# Altium footprint library PcbLib1.PcbLib: 12 footprints
Each footprint in its own frame and in the unit in brackets; x right, y up, seen from the top. Pads: shape width x height; smd on the part's side, far side on the other; paste and mask are expansions set on the pad; w line width, h text height; cw(c..) or ccw(c..) is an arc to the next point about the centre after c.
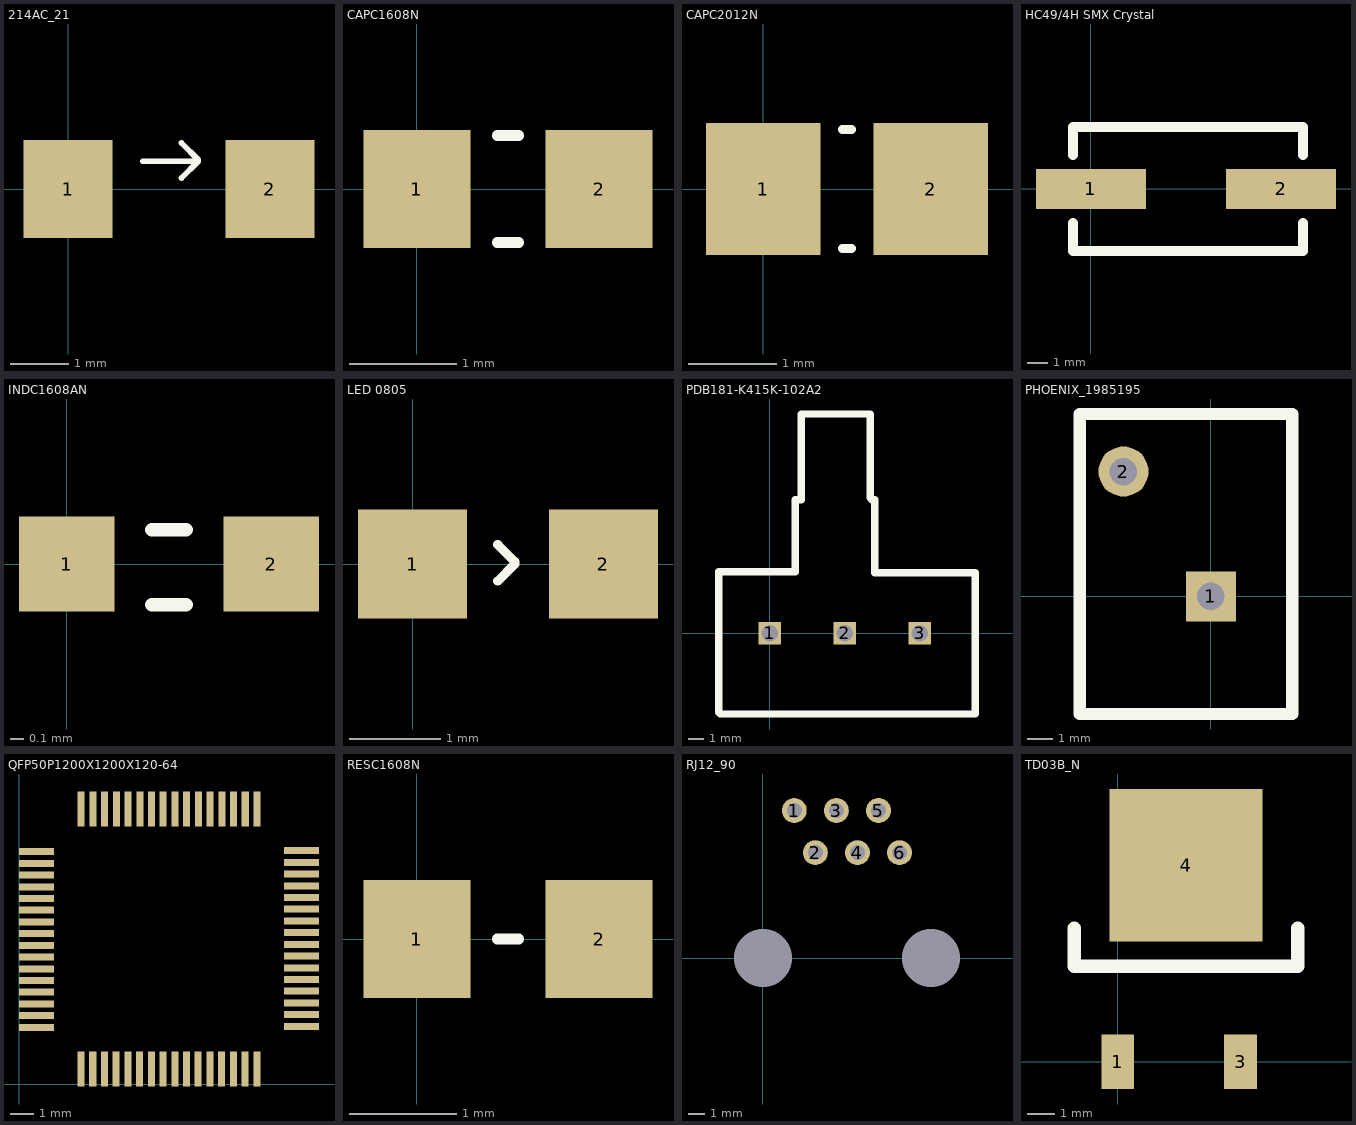
[diagram p0: the footprints below, top view; thin cyan lines are the x and y axes]

## 214AC_21 [mm]
height 3
pads (2):
  rect 1.52x1.68 smd: 1(0,0) 2(3.45,0)
Top Overlay:
  lines w0.1: 1.275,0.475 2.225,0.475 1.938,0.187 ; 1.938,0.787 2.225,0.5

## CAPC1608N [mm]
height 0.85
pads (2):
  rect 1x1.1 smd: 1(0,0) 2(1.7,0)
Top Overlay:
  lines w0.1: 0.75,-0.5 0.95,-0.5 ; 0.75,0.5 0.95,0.5

## CAPC2012N [mm]
height 1.1
pads (2):
  rect 1.3x1.5 smd: 1(0,0) 2(1.9,0)
Top Overlay:
  lines w0.1: 0.9,-0.675 1,-0.675 ; 0.9,0.675 1,0.675

## HC49/4H SMX Crystal [mm]
pads (2):
  rect 5.5x2 smd: 1(0,0) 2(9.5,0)
Top Overlay:
  lines w0.5: -0.9,-1.7 -0.9,-3.1 10.6,-3.1 10.6,-1.7 ; -0.9,1.7 -0.9,3.1 10.6,3.1 10.6,1.7

## INDC1608AN [mm]
height 0.8
pads (2):
  rect 0.7x0.7 smd: 1(0,0) 2(1.5,0)
Top Overlay:
  lines w0.1: 0.625,-0.3 0.875,-0.3 ; 0.625,0.25 0.875,0.25

## LED 0805 [mm] "D1"
height 1.1
pads (2):
  rect 1.2x1.2 smd: 1(0,0) 2(2.1,0)
Top Overlay:
  lines w0.1: 0.938,-0.187 1.125,0 ; 0.938,0.213 1.125,0.025

## PDB181-K415K-102A2 [mm]
height 20.5
pads (3):
  rect 1.5x1.5 hole 1.1: 1(0,0) 2(5,0) 3(10,0)
Top Overlay:
  lines w0.5: 13.7,4 13.7,-5.4 -3.3,-5.4 -3.4,-5.3 -3.4,4.1 1.7,4.1 1.7,8.9 2.1,8.9 2.1,14.6 6.7,14.6 6.7,9 6.8,8.9 7,8.9 7,4 13.7,4 ; 13.7,4 13.7,4

## PHOENIX_1985195 [mm]
height 13.1
pads (2):
  rect 2x2 hole 1.1: 1(0,0)
  round 2 hole 1.1: 2(-3.5,5)
Top Overlay:
  lines w0.5: -5.25,-4.7 3.25,-4.7 3.25,7.3 -5.25,7.3 -5.25,-4.7

## QFP50P1200X1200X120-64 [mm]
height 6
pads (64):
  rect 0.3x1.5 smd: 1(2.628,0.652) 2(3.128,0.652) 3(3.628,0.652) 4(4.128,0.652) 5(4.628,0.652) 6(5.128,0.652) 7(5.628,0.652) 8(6.128,0.652) 9(6.628,0.652) 10(7.128,0.652) 11(7.628,0.652) 12(8.128,0.652) 13(8.628,0.652) 14(9.128,0.652) 15(9.628,0.652) 16(10.128,0.652) 33(10.135,11.75) 34(9.635,11.75) 35(9.135,11.75) 36(8.635,11.75) 37(8.135,11.75) 38(7.635,11.75) 39(7.135,11.75) 40(6.635,11.75) 41(6.135,11.75) 42(5.635,11.75) 43(5.135,11.75) 44(4.635,11.75) 45(4.135,11.75) 46(3.635,11.75) 47(3.135,11.75) 48(2.635,11.75)
  rect 1.5x0.3 smd: 17(12.033,2.472) 18(12.033,2.972) 19(12.033,3.472) 20(12.033,3.972) 21(12.033,4.472) 22(12.033,4.972) 23(12.033,5.472) 24(12.033,5.972) 25(12.033,6.472) 26(12.033,6.972) 27(12.033,7.472) 28(12.033,7.972) 29(12.033,8.472) 30(12.033,8.972) 31(12.033,9.472) 32(12.033,9.972) 49(0.73,9.93) 50(0.73,9.43) 51(0.73,8.93) 52(0.73,8.43) 53(0.73,7.93) 54(0.73,7.43) 55(0.73,6.93) 56(0.73,6.43) 57(0.73,5.93) 58(0.73,5.43) 59(0.73,4.93) 60(0.73,4.43) 61(0.73,3.93) 62(0.73,3.43) 63(0.73,2.93) 64(0.73,2.43)
Top Overlay:
  text "." at 0.1,-0.1 h3

## RESC1608N [mm]
height 0.6
pads (2):
  rect 1x1.1 smd: 1(0,0) 2(1.7,0)
Top Overlay:
  lines w0.1: 0.75,0 0.95,0

## RJ12_90 [mm] "1-215876-3"
height 11.5
pads (8):
  round 1.5 hole 0.9: 1(1.9,8.9) 2(3.17,6.36) 3(4.44,8.9) 4(5.71,6.36) 5(6.98,8.9) 6(8.25,6.36)
  round 0 hole 3.5: ""(0,0) ""(10.16,0)
Bottom Overlay:
  lines w0.5: -1.52,-7.9 11.68,-7.9 11.68,10.2 -1.52,10.2 -1.52,-7.9

## TD03B_N [mm] "AP1117"
height 2.29
pads (3):
  rect 1.2x2 smd: 1(0,0) 3(4.5,0)
  rect 5.6x5.6 smd: 4(2.5,7.2)
Top Overlay:
  lines w0.5: -1.6,4.9 -1.6,3.5 6.6,3.5 6.6,4.9